# Altium footprint library PcbLib2.PcbLib: 45 footprints (part 3 of 3)
Each footprint in its own frame and in the unit in brackets; x right, y up, seen from the top. Pads: shape width x height; smd on the part's side, far side on the other; paste and mask are expansions set on the pad; w line width, h text height; cw(c..) or ccw(c..) is an arc to the next point about the centre after c.
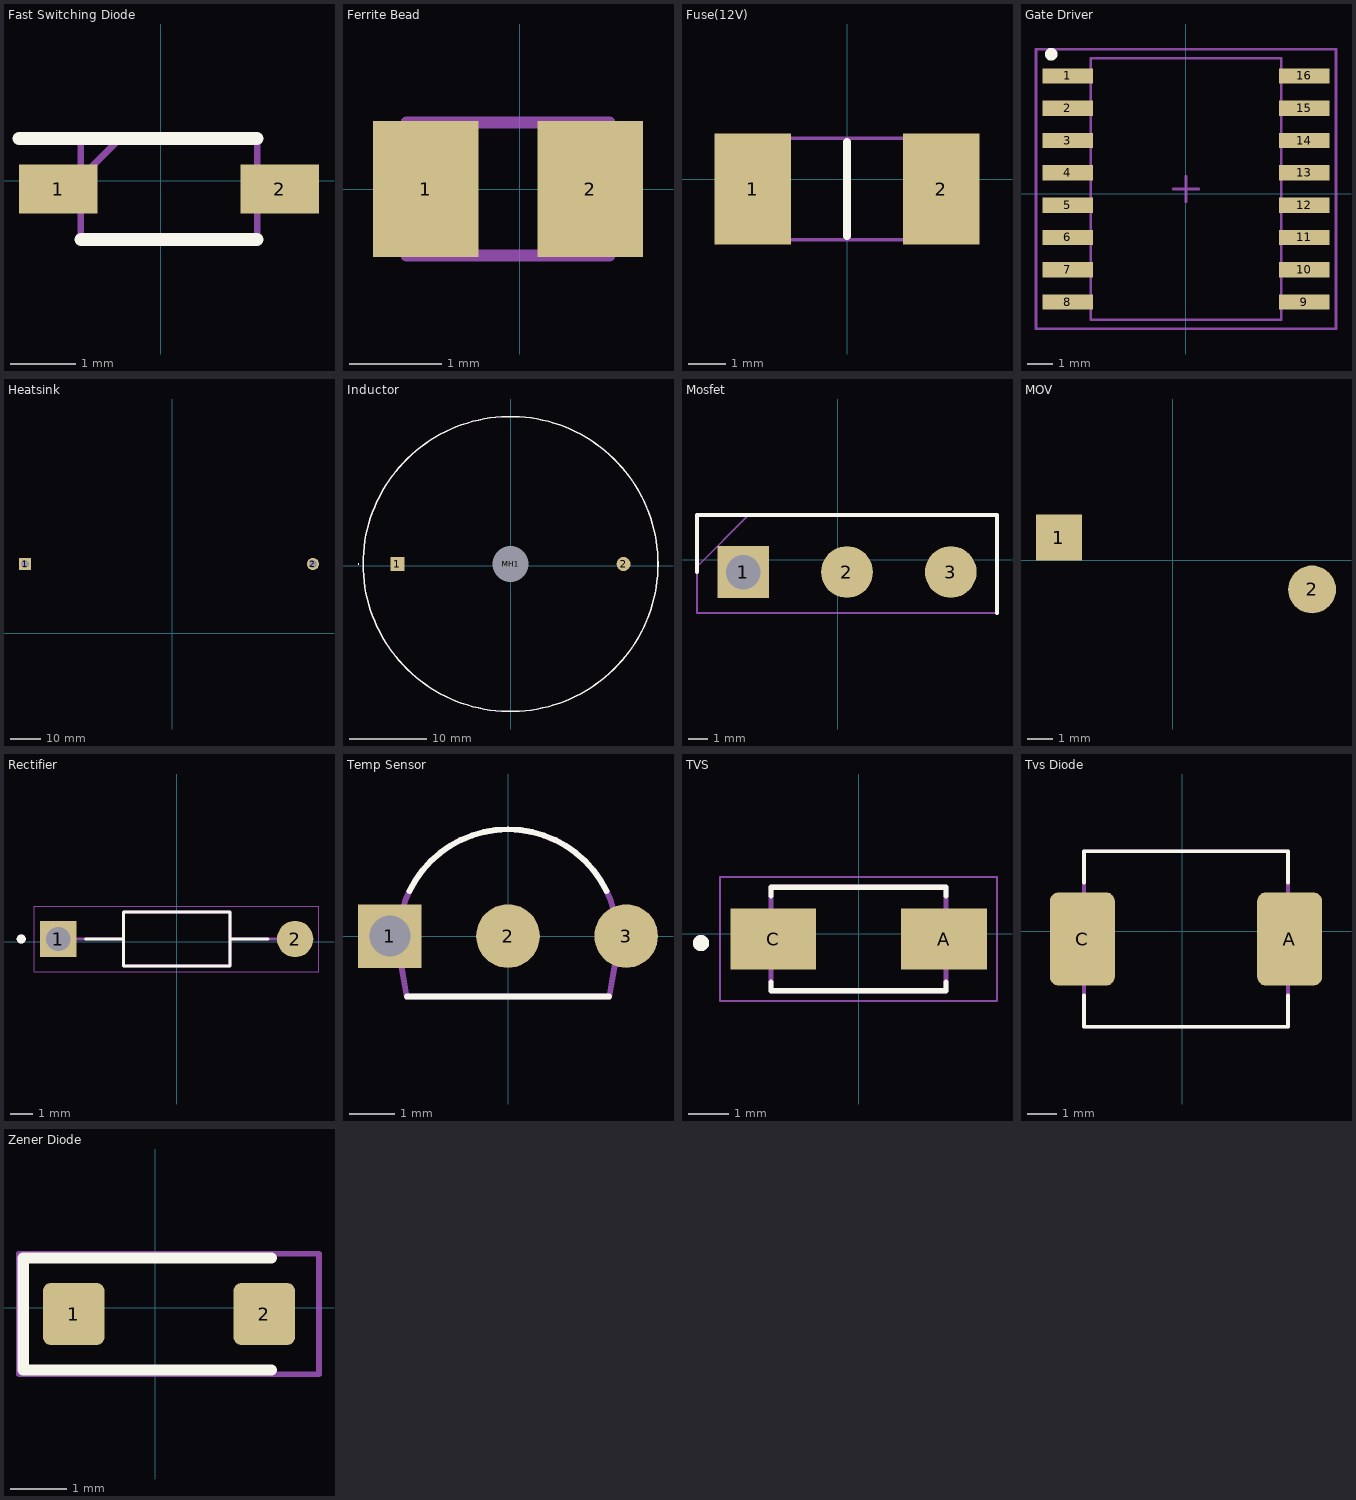
[diagram p2: the footprints below, top view; thin cyan lines are the x and y axes]

## Fast Switching Diode [mm]
pads (2):
  rect 1.2x0.75 smd: 1(-1.573,-0.127) 2(1.827,-0.127)
Top Overlay:
  lines w0.2: -2.173,0.648 1.477,0.648 ; -1.223,-0.902 1.477,-0.902
Mechanical 15:
  lines w0.1: -1.223,0.048 -0.623,0.648 ; -1.223,-0.902 -1.223,0.648 1.477,0.648 1.477,-0.902 -1.223,-0.902
3D body "1N4148W-7-F.stp": height 1, standoff 0, extent -1.723,-1.017 1.977,0.763

## Ferrite Bead [mm]
pads (2):
  rect 1.14x1.47 smd: 1(-1.017,0) 2(0.763,0)
Mechanical 13:
  lines w0.127: -1.227,-0.72 -1.227,0.72 0.973,0.72 0.973,-0.72 -1.227,-0.72
3D body "BLM21PG221SN1D.STEP": height 1.23, standoff -0.02, extent -1.127,-0.542 0.873,0.508

## Fuse(12V) [mm] "0451001.MRL"
pads (2):
  rect 2.02x2.95 smd: 1(-2.5,-0.254) 2(2.5,-0.254)
Top Overlay:
  lines w0.2: 0,-1.499 0,0.991
Mechanical 15:
  lines w0.1: -3.05,-1.599 3.05,-1.599 3.05,1.091 -3.05,1.091 -3.05,-1.599
3D body "0451001.MRL.stp": height 2.94, standoff 0, extent -3.05,-1.599 3.05,1.091

## Gate Driver [mm]
pads (16):
  rect 2x0.6 smd paste+0 mask+0: 1(-4.635,4.624) 2(-4.635,3.354) 3(-4.635,2.084) 4(-4.635,0.814) 5(-4.635,-0.456) 6(-4.635,-1.726) 7(-4.635,-2.996) 8(-4.635,-4.266) 9(4.665,-4.266) 10(4.665,-2.996) 11(4.665,-1.726) 12(4.665,-0.456) 13(4.665,0.814) 14(4.665,2.084) 15(4.665,3.354) 16(4.665,4.624)
Top Overlay:
  circle w0.25: c-5.285,5.479 r0.125
Bottom Assembly:
  text ".DESIGNATOR" at 0.015,0.179 h1.2
Mechanical 13:
  lines w0.1: -3.735,-4.971 3.765,-4.971 3.765,5.329 -3.735,5.329 -3.735,-4.971
Mechanical 15:
  lines w0.1: -0.485,0.179 0.515,0.179 ; 0.015,-0.321 0.015,0.679 ; -5.885,-5.321 5.915,-5.321 5.915,5.679 -5.885,5.679 -5.885,-5.321
3D body: height 2.65, standoff 2.65, extent -3.205,4.329 -2.605,4.929
3D body: height 2.65, standoff 0.1, extent -3.735,-4.971 3.765,5.329
3D body: height 0.28, standoff 0, extent -5.147,4.411 -4.376,4.831
3D body: height 1.3, standoff 1.02, extent -4.312,4.411 -3.735,4.831
3D body: height 1.3, standoff 0, extent -4.587,4.411 -4.312,4.831
3D body: height 1.3, standoff 0, extent -4.587,3.141 -4.312,3.561
3D body: height 1.3, standoff 1.02, extent -4.312,3.141 -3.735,3.561
3D body: height 0.28, standoff 0, extent -5.147,3.141 -4.376,3.561
3D body: height 0.28, standoff 0, extent -5.147,0.601 -4.376,1.021
3D body: height 1.3, standoff 1.02, extent -4.312,0.601 -3.735,1.021
3D body: height 1.3, standoff 0, extent -4.587,0.601 -4.312,1.021
3D body: height 1.3, standoff 0, extent -4.587,1.871 -4.312,2.291
3D body: height 1.3, standoff 1.02, extent -4.312,1.871 -3.735,2.291
3D body: height 0.28, standoff 0, extent -5.147,1.871 -4.376,2.291
3D body: height 0.28, standoff 0, extent -5.147,-1.939 -4.376,-1.519
3D body: height 1.3, standoff 1.02, extent -4.312,-1.939 -3.735,-1.519
3D body: height 1.3, standoff 0, extent -4.587,-1.939 -4.312,-1.519
3D body: height 1.3, standoff 0, extent -4.587,-0.669 -4.312,-0.249
3D body: height 1.3, standoff 1.02, extent -4.312,-0.669 -3.735,-0.249
3D body: height 0.28, standoff 0, extent -5.147,-0.669 -4.376,-0.249
3D body: height 0.28, standoff 0, extent -5.147,-4.479 -4.376,-4.059
3D body: height 1.3, standoff 1.02, extent -4.312,-4.479 -3.735,-4.059
3D body: height 1.3, standoff 0, extent -4.587,-4.479 -4.312,-4.059
3D body: height 1.3, standoff 0, extent -4.587,-3.209 -4.312,-2.789
3D body: height 1.3, standoff 1.02, extent -4.312,-3.209 -3.735,-2.789
3D body: height 0.28, standoff 0, extent -5.147,-3.209 -4.376,-2.789
3D body: height 0.28, standoff 0, extent 4.406,3.141 5.177,3.561
3D body: height 1.3, standoff 1.02, extent 3.765,3.141 4.342,3.561
3D body: height 1.3, standoff 0, extent 4.342,3.141 4.617,3.561
3D body: height 1.3, standoff 0, extent 4.342,4.411 4.617,4.831
3D body: height 1.3, standoff 1.02, extent 3.765,4.411 4.342,4.831
3D body: height 0.28, standoff 0, extent 4.406,4.411 5.177,4.831
3D body: height 0.28, standoff 0, extent 4.406,0.601 5.177,1.021
3D body: height 1.3, standoff 1.02, extent 3.765,0.601 4.342,1.021
3D body: height 1.3, standoff 0, extent 4.342,0.601 4.617,1.021
3D body: height 1.3, standoff 0, extent 4.342,1.871 4.617,2.291
3D body: height 1.3, standoff 1.02, extent 3.765,1.871 4.342,2.291
3D body: height 0.28, standoff 0, extent 4.406,1.871 5.177,2.291
3D body: height 0.28, standoff 0, extent 4.406,-1.939 5.177,-1.519
3D body: height 1.3, standoff 1.02, extent 3.765,-1.939 4.342,-1.519
3D body: height 1.3, standoff 0, extent 4.342,-1.939 4.617,-1.519
3D body: height 1.3, standoff 0, extent 4.342,-0.669 4.617,-0.249
3D body: height 1.3, standoff 1.02, extent 3.765,-0.669 4.342,-0.249
3D body: height 0.28, standoff 0, extent 4.406,-0.669 5.177,-0.249
3D body: height 0.28, standoff 0, extent 4.406,-3.209 5.177,-2.789
3D body: height 1.3, standoff 1.02, extent 3.765,-3.209 4.342,-2.789
3D body: height 1.3, standoff 0, extent 4.342,-3.209 4.617,-2.789
3D body: height 1.3, standoff 0, extent 4.342,-4.479 4.617,-4.059
3D body: height 1.3, standoff 1.02, extent 3.765,-4.479 4.342,-4.059
3D body: height 0.28, standoff 0, extent 4.406,-4.479 5.177,-4.059

## Heatsink [mm] "694-100"
pads (2):
  rect 4.005x4.005 hole 2.67: 1(-49.022,23.114)
  round 4.005 hole 2.67: 2(46.863,23.114)
3D body "694-50(NuNew).step": height 35.56, standoff -2.86, extent -51.143,12.698 48.857,34.798

## Inductor [mil] "1140-681K-RC"
pads (3):
  rect 71.81x71.81 smd: 1(-575,10)
  round 71.81 smd: 2(575,10)
  round 92.44 hole 184.87 unplated: MH1(0,10)
Top Overlay:
  lines w3.94: -775.79,10 ccw(c-773.82,10) -771.85,10 ccw(c-773.82,10) -775.79,10
  lines w7.87: -750,10 ccw(c0,10) 750,10 ccw(c0,10) -750,10
Mechanical 15:
  lines w3.94: -750,10 ccw(c0,10) 750,10 ccw(c0,10) -750,10
3D body "1140-681K-RC.stp": height 1065, standoff -465, extent -750,-740 750,760

## Mosfet [mm]
pads (3):
  rect 2.715x2.715 / inner round 2.715 / far side rect 2.715x2.715 hole 1.81: 1(-4.953,-0.635)
  round 2.715 smd: 2(0.497,-0.635) 3(5.947,-0.635)
Top Overlay:
  lines w0.2: -7.378,-0.635 -7.378,2.365 8.372,2.365 8.372,-2.785
Mechanical 15:
  lines w0.1: -7.378,-0.36 -4.653,2.365 ; -7.378,-2.785 8.372,-2.785 8.372,2.365 -7.378,2.365 -7.378,-2.785
3D body "STW69N65M5.stp": height 24.45, standoff -40, extent -7.303,-2.785 8.297,2.365

## MOV [mm] "B72220S0421K101"
pads (2):
  rect 1.8x1.8 smd: 1(-4.445,0.889)
  round 1.875 smd: 2(5.461,-1.143)
3D body "B72220S0421K101.stp": height 25.72, standoff -23.76, extent -9.992,-2.027 11.008,1.773

## Rectifier [mm]
pads (2):
  rect 1.59x1.59 / inner round 1.59 / far side rect 1.59x1.59 hole 1.06: 1(-5.18,0.127)
  round 1.59 smd: 2(5.18,0.127)
Top Overlay:
  circle w0.2: c-6.8,0.127 r0.1
  lines w0.127: -3.995,0.127 -2.325,0.127 ; 3.995,0.127 2.325,0.127 ; -2.325,0.127 -2.325,1.302 2.325,1.302 2.325,0.127 ; -2.325,0.127 -2.325,-1.048 2.325,-1.048 2.325,0.127
Mechanical 13:
  circle w0.2: c-6.8,0.127 r0.1
  lines w0.127: -4.385,0.127 -2.325,0.127 ; 4.385,0.127 2.325,0.127 ; -2.325,0.127 -2.325,1.302 2.325,1.302 2.325,0.127 ; -2.325,0.127 -2.325,-1.048 2.325,-1.048 2.325,0.127
Mechanical 15:
  lines w0.05: -6.225,-1.298 -6.225,1.552 6.225,1.552 6.225,-1.298 -6.225,-1.298
3D body "MUR160G.STEP": height 2.69, standoff -21.19, extent -5.573,-1.223 5.573,1.477

## Temp Sensor [mm]
pads (3):
  rect 1.4x1.4 / inner round 1.4 / far side rect 1.4x1.4 hole 0.9 mask+0.05: 1(-2.6,0)
  round 1.4 smd mask+0.05: 2(0,0) 3(2.6,0)
Top Overlay:
  lines w0.127: -2.226,-1.33 2.226,-1.33 ; -2.168,0.995 cw(c0,-0.062) 2.168,0.995
Mechanical 13:
  lines w0.127: -2.376,-0.481 cw(c0,-0.063) 2.376,-0.481 ; -2.376,-0.481 cw(c0,-0.063) 2.376,-0.481 ; -2.376,-0.481 -2.226,-1.33 2.226,-1.33 2.376,-0.481
3D body "step_temp.STEP": height 9.34, standoff -8.7, extent -2.832,-1.33 2.832,2.35

## TVS [mm]
pads (2):
  rect 2.12x1.5 smd paste+0 mask+0.102: A(2.115,-0.127) C(-2.115,-0.127)
Top Overlay:
  circle w0.2: c-3.9,-0.227 r0.1
  lines w0.127: -2.165,-1.197 -2.165,-1.407 2.165,-1.407 2.165,-1.197 ; -2.165,0.943 -2.165,1.153 2.165,1.153 2.165,0.943
Mechanical 13:
  circle w0.2: c-3.9,-0.227 r0.1
  lines w0.127: -2.165,-1.407 -2.165,1.153 2.165,1.153 2.165,-1.407 -2.165,-1.407
Mechanical 15:
  lines w0.05: -3.425,-1.657 -3.425,1.403 3.425,1.403 3.425,-1.657 -3.425,-1.657
3D body "step_temp.STEP": height 2.19, standoff 0.02, extent -2.398,-1.524 2.652,1.176

## Tvs Diode [mm] "SMCJ440A"
pads (2):
  rrect25% 2.18x3.12 smd: A(3.612,-0.254) C(-3.358,-0.254)
Top Overlay:
  lines w0.127: -3.3,-2.154 -3.3,-3.207 3.554,-3.207 3.554,-2.154 ; -3.3,1.646 -3.3,2.699 3.554,2.699 3.554,1.646
Mechanical 13:
  lines w0.127: -3.3,-3.207 -3.3,2.699 3.554,2.699 3.554,-3.207 -3.3,-3.207
3D body "SMCJ440A.stp": height 2.62, standoff 0, extent -3.843,-3.207 4.097,2.699

## Zener Diode [mm]
pads (2):
  rrect25% 1.1x1.1 smd: 1(-1.451,-0.11) 2(1.949,-0.11)
Top Overlay:
  lines w0.2: 2.074,-1.11 -2.351,-1.11 -2.351,0.89 2.074,0.89
Mechanical 15:
  lines w0.1: -2.426,-1.185 2.924,-1.185 2.924,0.965 -2.426,0.965 -2.426,-1.185
3D body "p35_SOD-123F.stp": height 1, standoff 0, extent -1.651,-0.91 2.149,0.69